# Altium schematic symbol library R_1206_2512.SchLib: 1 symbol
Pins are listed as number, name and electrical type; pins without a type are passive.

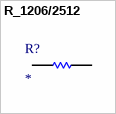
[diagram p0: symbol R_1206/2512]

## R_1206/2512
designator R?
footprint RESC6331X06N (Chip Resistor, 2-Leads, Body 6.30x3.10mm, IPC Medium Density)
pins: 1, 2